# EAGLE library part RBT01.BLE.MODULE.V1.0 (library template)
RBT01 Bluetooth low energy single mode module is a single mode device targeted for low power sensors and accessories. RBT01 offers all Bluetooth low energy features: radio, stack, profiles and application space for customer applications, so no external processor is needed. The module also provides flexible hardware interfaces to connect sensors, simple user interfaces or even displays directly to the module. RBT01 can be powered directly with a standard 3V coin cell batteries or pair of 3A batteries. In lowest power sleep mode it consumes only 0.4uA and will wake up in few hundred microseconds.
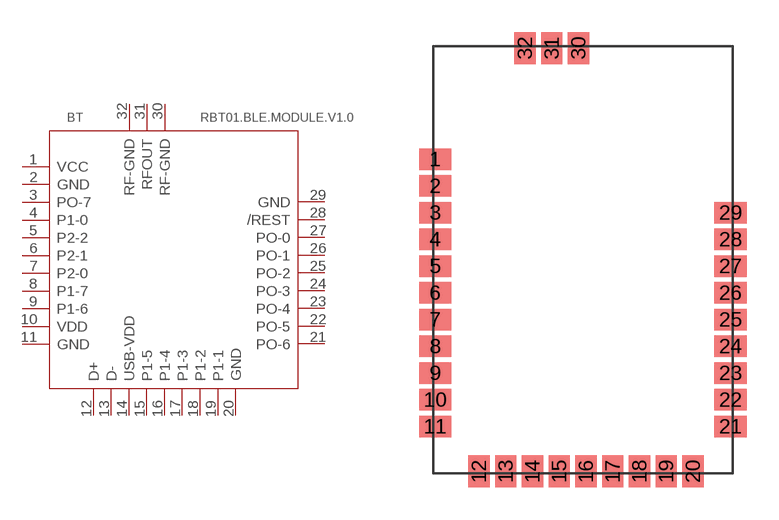
[diagram p25: symbol with the pads of 32P-20X14; footprint 32P-20X14]

Designator prefix BT

## RBT01.BLE.MODULE.V1.0  [32P-20X14]
1  VCC
2  GND
3  PO-7
4  P1-0
5  P2-2
6  P2-1
7  P2-0
8  P1-7
9  P1-6
10  VDD
11  GND
12  D+
13  D-
14  USB-VDD
15  P1-5
16  P1-4
17  P1-3
18  P1-2
19  P1-1
20  GND
21  PO-6
22  PO-5
23  PO-4
24  PO-3
25  PO-2
26  PO-1
27  PO-0
28  /REST
29  GND
30  RF-GND
31  RFOUT
32  RF-GND

## Footprint 32P-20X14 (pad centres in mm)
smd 1.5 x 1: 1 -6.9,4.7; 2 -6.9,3.45; 3 -6.9,2.2; 4 -6.9,0.95; 5 -6.9,-0.3; 6 -6.9,-1.55; 7 -6.9,-2.8; 8 -6.9,-4.05; 9 -6.9,-5.3; 10 -6.9,-6.55; 11 -6.9,-7.8; 21 6.9,-7.8; 22 6.9,-6.55; 23 6.9,-5.3; 24 6.9,-4.05; 25 6.9,-2.8; 26 6.9,-1.55; 27 6.9,-0.3; 28 6.9,0.95; 29 6.9,2.2
smd 1 x 1.5: 12 -4.85,-9.9; 13 -3.6,-9.9; 14 -2.35,-9.9; 15 -1.1,-9.9; 16 0.15,-9.9; 17 1.4,-9.9; 18 2.65,-9.9; 19 3.9,-9.9; 20 5.15,-9.9; 30 -0.2,9.9; 31 -1.45,9.9; 32 -2.7,9.9